# Altium footprint library HAKATAYA.PcbLib: 227 footprints (part 12 of 15)
Each footprint in its own frame and in the unit in brackets; x right, y up, seen from the top. Pads: shape width x height; smd on the part's side, far side on the other; paste and mask are expansions set on the pad; w line width, h text height; cw(c..) or ccw(c..) is an arc to the next point about the centre after c.
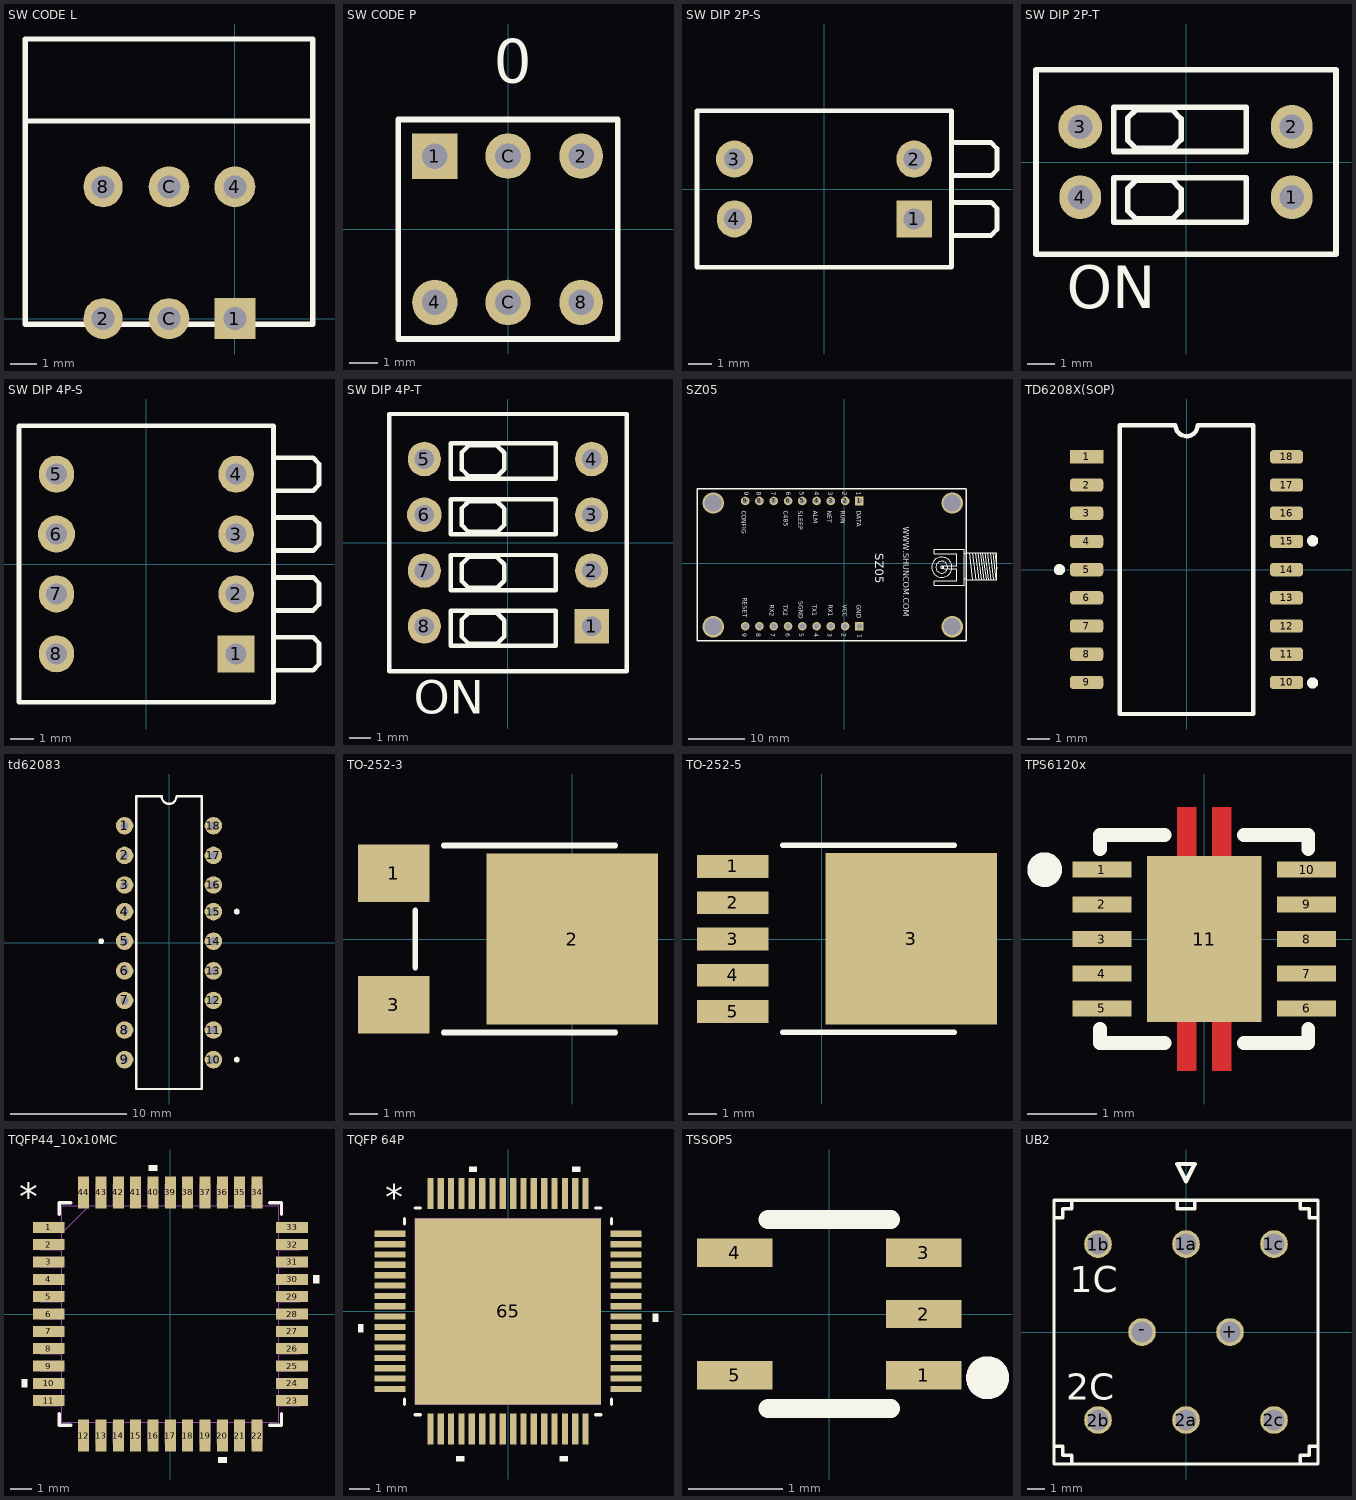
[diagram p11: the footprints below, top view; thin cyan lines are the x and y axes]

## SW CODE L [mil] "DIP CODE SW LIGHTANGLE"
height 314.96
pads (6):
  rect 62x62 hole 35.04: 1(0,0)
  oval 59.06x62 hole 35.04: 2(-200,0) 8(-200,200)
  round 62 hole 35.04: 4(0,200) C(-100,0) C(-100,200)
Top Overlay:
  lines w7.87: -318.11,300 118.11,300 ; -318.11,-8.66 -318.11,424.41 118.11,424.41 118.11,-8.66 -318.11,-8.66

## SW CODE P [mil] "ND-FR 7.62mm"
height 204.72
pads (6):
  rect 62x62 hole 35.04: 1(-100,100)
  oval 59.06x62 hole 35.04: 2(100,100) 8(100,-100)
  round 62 hole 35.04: 4(-100,-100) C(0,-100) C(0,100)
Top Overlay:
  lines w7.87: -150,-150 150,-150 150,150 -150,150 -150,-150
  text "0" at -19.68,200 h60

## SW DIP 2P-S [mm]
height 9.7
pads (4):
  rect 1.5x1.575 hole 0.89: 1(3.81,-1.27)
  oval 1.5x1.575 hole 0.89: 2(3.81,1.27) 4(-3.81,-1.27)
  round 1.575 hole 0.89: 3(-3.81,1.27)
Top Overlay:
  lines w0.2: 5.4,-1.97 7.072,-1.97 7.326,-1.716 7.326,-0.824 7.072,-0.57 5.4,-0.57 ; 5.4,0.57 7.072,0.57 7.326,0.824 7.326,1.716 7.072,1.97 5.4,1.97 ; -5.4,-3.32 5.4,-3.32 5.4,3.32 -5.4,3.32 -5.4,-3.32

## SW DIP 2P-T [mm] "2.54mm DIP"
pads (4):
  oval 1.5x1.575 hole 0.89: 1(3.81,-1.27) 2(3.81,1.27) 4(-3.81,-1.27)
  round 1.575 hole 0.89: 3(-3.81,1.27)
Top Overlay:
  lines w0.2: -5.4,-3.32 5.4,-3.32 5.4,3.32 -5.4,3.32 -5.4,-3.3 ; -2.6,-2.16 2.172,-2.16 2.172,-0.56 -2.6,-0.56 -2.6,-2.16 ; -2.6,0.38 2.172,0.38 2.172,1.98 -2.6,1.98 -2.6,0.38 ; -2.1,-1.75 -1.8,-2.05 -0.49,-2.05 -0.174,-1.734 -0.174,-0.986 -0.51,-0.65 -1.79,-0.65 -2.1,-0.96 -2.1,-1.75 ; -2.1,0.79 -1.8,0.49 -0.49,0.49 -0.174,0.806 -0.174,1.554 -0.51,1.89 -1.79,1.89 -2.1,1.58 -2.1,0.79
  text "ON" at -4.3,-5.26 h1.52

## SW DIP 4P-S [mm] "DIP PIANO TYPE"
height 9.7
pads (8):
  rect 1.575x1.575 hole 0.89: 1(3.81,-3.81)
  oval 1.5x1.575 hole 0.89: 2(3.81,-1.27) 3(3.81,1.27) 4(3.81,3.81) 5(-3.81,3.81) 7(-3.81,-1.27) 8(-3.81,-3.81)
  round 1.575 hole 0.89: 6(-3.81,1.27)
Top Overlay:
  lines w0.2: 5.4,-4.51 7.072,-4.51 7.326,-4.256 7.326,-3.364 7.072,-3.11 5.4,-3.11 ; 5.4,-1.97 7.072,-1.97 7.326,-1.716 7.326,-0.824 7.072,-0.57 5.4,-0.57 ; 5.4,0.57 7.072,0.57 7.326,0.824 7.326,1.716 7.072,1.97 5.4,1.97 ; 5.4,3.11 7.072,3.11 7.326,3.364 7.326,4.256 7.072,4.51 5.4,4.51 ; -5.4,-5.86 5.4,-5.86 5.4,5.86 -5.4,5.86 -5.4,-5.86

## SW DIP 4P-T [mm] "2.54mm"
height 7.2
pads (8):
  rect 1.575x1.575 hole 0.89: 1(3.81,-3.81)
  oval 1.5x1.575 hole 0.89: 2(3.81,-1.27) 3(3.81,1.27) 4(3.81,3.81) 5(-3.81,3.81) 7(-3.81,-1.27) 8(-3.81,-3.81)
  round 1.575 hole 0.89: 6(-3.81,1.27)
Top Overlay:
  lines w0.2: -5.4,-5.86 -5.4,5.86 5.4,5.86 5.4,-5.86 -5.4,-5.86 ; -2.6,-4.7 -2.6,-3.1 2.172,-3.1 2.172,-4.7 -2.6,-4.7 ; -2.6,-2.16 2.172,-2.16 2.172,-0.56 -2.6,-0.56 -2.6,-2.16 ; -2.6,0.38 2.172,0.38 2.172,1.98 -2.6,1.98 -2.6,0.38 ; -2.6,2.92 2.172,2.92 2.172,4.52 -2.6,4.52 -2.6,2.92 ; -2.1,-4.29 -2.1,-3.5 -1.79,-3.19 -0.51,-3.19 -0.174,-3.526 -0.174,-4.274 -0.49,-4.59 -1.8,-4.59 -2.1,-4.29 ; -2.1,-1.75 -1.8,-2.05 -0.49,-2.05 -0.174,-1.734 -0.174,-0.986 -0.51,-0.65 -1.79,-0.65 -2.1,-0.96 -2.1,-1.75 ; -2.1,0.79 -1.8,0.49 -0.49,0.49 -0.174,0.806 -0.174,1.554 -0.51,1.89 -1.79,1.89 -2.1,1.58 -2.1,0.79 ; -2.1,3.33 -1.8,3.03 -0.49,3.03 -0.174,3.346 -0.174,4.094 -0.51,4.43 -1.79,4.43 -2.1,4.12 -2.1,3.33
  text "ON" at -4.3,-7.8 h1.52

## SZ05 [mil]
pads (18):
  rect 60x60 hole 36: 1(107.17,437.2) 18(107.17,-440.51)
  round 60 hole 36: 2(7.17,437.2) 3(-92.83,437.2) 4(-192.83,437.2) 5(-292.83,437.2) 6(-392.83,437.2) 7(-492.83,437.2) 8(-592.83,437.2) 9(-692.83,437.2) 10(-692.83,-440.51) 11(-592.83,-440.51) 12(-492.83,-440.51) 13(-392.83,-440.51) 14(-292.83,-440.51) 15(-192.83,-440.51) 16(-92.83,-440.51) 17(7.17,-440.51)
via -916.89,-442.75 diameter 150 hole 120
via 756.81,-442.75 diameter 150 hole 120
via -916.89,423.39 diameter 150 hole 120
via 756.81,423.39 diameter 150 hole 120
Top Overlay:
  circle w0.98: c684.41,-26.66 r70.87
  circle w0.98: c684.41,-26.66 r41.34
  circle w0.98: c684.41,-26.66 r7.87
  lines w2: 789.41,-10.66 789.41,-16.66 ; 876.41,75.34 899.41,-115.66 ; 899.41,75.34 921.41,-115.66 ; 917.41,75.34 942.41,-115.66 ; 936.41,75.34 962.41,-115.66 ; 953.41,75.34 978.41,-115.66 ; 969.41,75.34 994.41,-115.66 ; 984.41,75.34 1010.41,-115.66 ; 1004.41,75.34 1028.41,-115.66 ; 1022.41,75.34 1044.41,-115.66 ; 1041.41,75.34 1061.41,-115.66 ; 1056.41,75.34 1071.41,-36.66 ; 789.41,-16.66 789.41,68.34 631.41,68.34 631.41,98.34 789.41,98.34 ; 789.41,-16.66 697.41,-16.66 697.41,-25.66 697.41,-36.66 789.41,-36.66 789.41,-43.66 789.41,-122.66 631.41,-122.66 631.41,-152.66 789.41,-152.66 841.41,-152.66 841.41,-108.66 ; 789.41,98.34 841.41,98.34 ; 789.41,98.34 841.41,98.34 ; 841.41,-108.66 841.41,69.34 ; 841.41,-108.66 860.41,-108.66 860.41,-115.66 1071.41,-115.66 1071.41,75.34 860.41,75.34 860.41,69.34 841.41,69.34 ; 841.41,69.34 841.41,98.34
  lines w10: 855,520 855.24,-540.62 -1030.59,-540.62 -1030.59,522.42 855.24,522.42
  text "WWW.SHUNCOM.COM" at 415,255 h40
  text "RESET" at -710,-240 h30
  text "RX2" at -521.69,-290 h30
  text "TX2" at -426.69,-290 h30
  text "SGND" at -316.69,-265 h30
  text "TX1" at -221.69,-290 h30
  text "RX1" at -111.69,-290 h30
  text "VCC" at -10,-290 h30
  text "GND" at 90,-290 h30
  text "CONFIG" at -716.69,370 h30
  text "C485" at -421.69,370 h30
  text "SLEEP" at -321.69,370 h30
  text "ALM" at -216.69,370 h30
  text "NET" at -116.69,370 h30
  text "RUN" at -21.69,370 h30
  text "DATA" at 88.31,370 h30
  text "1" at 88.31,502.13 h30
  text "2" at -10.12,502.13 h30
  text "3" at -110.59,502.13 h30
  text "4" at -206.97,502.13 h30
  text "5" at -310.59,502.13 h30
  text "6" at -403.82,502.13 h30
  text "7" at -512.09,502.13 h30
  text "8" at -610.51,502.13 h30
  text "9" at -699.09,502.13 h30
  text "1" at 95,-495 h30
  text "2" at -15,-490 h30
  text "3" at -115,-490 h30
  text "4" at -210,-490 h30
  text "5" at -315,-490 h30
  text "6" at -410,-490 h30
  text "7" at -515,-490 h30
  text "8" at -615,-490 h30
  text "9" at -715,-490 h30
  text "SZ05" at 220,70 h60

## TD6208X(SOP) [mm]
height 2.5
pads (18):
  rect 1.5x0.6 smd: 1(-4.5,5.08)
  rrect50% 1.5x0.6 smd: 2(-4.5,3.81) 3(-4.5,2.54) 4(-4.5,1.27) 5(-4.5,0) 6(-4.5,-1.27) 7(-4.5,-2.54) 8(-4.5,-3.81) 9(-4.5,-5.08) 10(4.5,-5.08) 11(4.5,-3.81) 12(4.5,-2.54) 13(4.5,-1.27) 14(4.5,0) 15(4.5,1.27) 16(4.5,2.54) 17(4.5,3.81) 18(4.5,5.08)
Top Overlay:
  circle w0.25: c-5.725,0 r0.125
  circle w0.25: c5.675,-5.1 r0.125
  circle w0.25: c5.675,1.3 r0.125
  lines w0.2: -0.5,6.5 -3,6.5 -3,-6.5 3,-6.5 3,6.5 0.5,6.5 cw(c0,6.507) -0.5,6.507

## td62083 [mm]
height 4.15
pads (18):
  round 1.5 hole 0.7: 1(-3.81,10.033) 2(-3.81,7.493) 3(-3.81,4.953) 4(-3.81,2.667) 5(-3.81,0.127) 6(-3.81,-2.413) 7(-3.81,-4.953) 8(-3.81,-7.493) 9(-3.81,-10.033) 10(3.81,-10.033) 11(3.81,-7.493) 12(3.81,-4.953) 13(3.81,-2.413) 14(3.81,0.127) 15(3.81,2.667) 16(3.81,4.953) 17(3.81,7.493) 18(3.81,10.033)
Top Overlay:
  circle w0.25: c5.817,2.667 r0.125
  circle w0.25: c5.817,-10.033 r0.125
  circle w0.25: c-5.817,0.127 r0.125
  lines w0.2: -2.8,-12.55 2.8,-12.55 2.8,12.55 0.64,12.55 cw(c0.005,12.55) -0.631,12.55 -2.8,12.55 -2.8,-12.55

## TO-252-3 [mm] "NJM2845"
height 2.29
pads (3):
  rect 2.5x2 smd: 1(-6.25,2.3) 3(-6.25,-2.3)
  rect 6x6 smd: 2(0,0)
Top Overlay:
  lines w0.2: -5.5,-1 -5.5,1 ; -4.5,-3.27 1.5,-3.27 ; -4.5,3.27 1.5,3.27

## TO-252-5 [mm]
pads (6):
  rect 2.5x0.8 smd: 1(-3.125,2.54) 2(-3.125,1.27) 3(-3.125,0) 4(-3.125,-1.27) 5(-3.125,-2.54)
  rect 6x6 smd: 3(3.125,0.008)
Top Overlay:
  lines w0.2: -1.375,-3.262 4.625,-3.262 ; -1.375,3.278 4.625,3.278

## TPS6120x [mm] "TI LOW VOLTAGE CONVERTER"
height 1
pads (11):
  rect 0.85x0.23 smd: 1(-1.475,1) 2(-1.475,0.5) 3(-1.475,0) 4(-1.475,-0.5) 5(-1.475,-1) 6(1.475,-1) 7(1.475,-0.5) 8(1.475,0) 9(1.475,0.5) 10(1.475,1)
  rect 1.65x2.4 smd mask-3.734: 11(0,0)
Top Layer:
  rectangle: 0.11,-1.9 0.39,-1.2
  rectangle: -0.39,-1.9 -0.11,-1.2
  rectangle: -0.39,1.2 -0.11,1.9
  rectangle: 0.11,1.2 0.39,1.9
Top Overlay:
  circle w0.25: c-2.3,1 r0.125
  lines w0.2: -1.5,-1.3 -1.5,-1.5 -0.575,-1.5 ; -1.5,1.3 -1.5,1.5 -0.575,1.5 ; 0.575,-1.5 1.5,-1.5 1.5,-1.3 ; 0.575,1.5 1.5,1.5 1.5,1.3

## TQFP44_10x10MC [mil]
pads (44):
  rect 58x20 smd: 1(-221,157.48) 2(-221,125.98) 3(-221,94.49) 4(-221,62.99) 5(-221,31.5) 6(-221,0) 7(-221,-31.5) 8(-221,-62.99) 9(-221,-94.49) 10(-221,-125.98) 11(-221,-157.48) 23(221,-157.48) 24(221,-125.98) 25(221,-94.49) 26(221,-62.99) 27(221,-31.5) 28(221,0) 29(221,31.5) 30(221,62.99) 31(221,94.49) 32(221,125.98) 33(221,157.48)
  rect 20x58 smd: 12(-157.48,-221) 13(-125.98,-221) 14(-94.49,-221) 15(-62.99,-221) 16(-31.5,-221) 17(0,-221) 18(31.5,-221) 19(62.99,-221) 20(94.49,-221) 21(125.98,-221) 22(157.48,-221) 34(157.48,221) 35(125.98,221) 36(94.49,221) 37(62.99,221) 38(31.5,221) 39(0,221) 40(-31.5,221) 41(-62.99,221) 42(-94.49,221) 43(-125.98,221) 44(-157.48,221)
Top Overlay:
  region: -260,-118.48 -270,-118.48 -270,-133.48 -260,-133.48
  region: 101.99,-260 86.99,-260 86.99,-270 101.99,-270
  region: 260,70.49 270,70.49 270,55.49 260,55.49
  region: -24,260 -39,260 -39,270 -24,270
  lines w6: -202,-180.58 -202,-202 -180.58,-202 ; -202,180.58 -202,202 -180.58,202 ; 180.58,-202 202,-202 202,-180.58 ; 180.58,202 202,202 202,180.58
  text "*" at -275,188.23 h50
Mechanical 1:
  drawing of 181 lines, arcs and shapes, not listed
  text "*" at -182,173.23 h50

## TQFP 64P [mm] "10x10x1 mm, pitch 0.5mm"
height 1
pads (65):
  rect 1.5x0.3 smd mask+0.127: 1(-5.7,3.75) 2(-5.7,3.25) 3(-5.7,2.75) 4(-5.7,2.25) 5(-5.7,1.75) 6(-5.7,1.25) 7(-5.7,0.75) 8(-5.7,0.25) 9(-5.7,-0.25) 10(-5.7,-0.75) 11(-5.7,-1.25) 12(-5.7,-1.75) 13(-5.7,-2.25) 14(-5.7,-2.75) 15(-5.7,-3.25) 16(-5.7,-3.75) 33(5.7,-3.75) 34(5.7,-3.25) 35(5.7,-2.75) 36(5.7,-2.25) 37(5.7,-1.75) 38(5.7,-1.25) 39(5.7,-0.75) 40(5.7,-0.25) 41(5.7,0.25) 42(5.7,0.75) 43(5.7,1.25) 44(5.7,1.75) 45(5.7,2.25) 46(5.7,2.75) 47(5.7,3.25) 48(5.7,3.75)
  rect 0.3x1.5 smd mask+0.127: 17(-3.75,-5.7) 18(-3.25,-5.7) 19(-2.75,-5.7) 20(-2.25,-5.7) 21(-1.75,-5.7) 22(-1.25,-5.7) 23(-0.75,-5.7) 24(-0.25,-5.7) 25(0.25,-5.7) 26(0.75,-5.7) 27(1.25,-5.7) 28(1.75,-5.7) 29(2.25,-5.7) 30(2.75,-5.7) 31(3.25,-5.7) 32(3.75,-5.7) 49(3.75,5.7) 50(3.25,5.7) 51(2.75,5.7) 52(2.25,5.7) 53(1.75,5.7) 54(1.25,5.7) 55(0.75,5.7) 56(0.25,5.7) 57(-0.25,5.7) 58(-0.75,5.7) 59(-1.25,5.7) 60(-1.75,5.7) 61(-2.25,5.7) 62(-2.75,5.7) 63(-3.25,5.7) 64(-3.75,5.7)
  rect 9x9 smd mask-3.734: 65(0,0)
Top Overlay:
  region: 3.5,6.746 3.119,6.746 3.119,7 3.5,7
  region: 7,-0.119 7.254,-0.119 7.254,-0.5 7,-0.5
  region: 2.881,-7 2.5,-7 2.5,-7.254 2.881,-7.254
  region: -2.119,-7 -2.5,-7 -2.5,-7.254 -2.119,-7.254
  region: -7,-0.619 -7.254,-0.619 -7.254,-1 -7,-1
  region: -1.5,6.746 -1.881,6.746 -1.881,7 -1.5,7
  lines w0.152: -5,-4.496 -5,-4.233 ; -5,4.233 -5,4.496 ; -4.496,-5 -4.233,-5 ; -4.496,5 -4.233,5 ; 4.233,-5 4.496,-5 ; 4.233,5 4.496,5 ; 5,-4.496 5,-4.233 ; 5,4.233 5,4.496
  text "*" at -5.936,4.881 h1.27
Mechanical 1:
  lines w0: -4.496,3.226 -3.226,4.496 ; -4.496,-4.496 -4.496,4.496 4.496,4.496 4.496,-4.496 -4.496,-4.496 ; -4.496,-3.902 -4.496,-3.598 -4.496,-3.902 ; -4.496,-3.402 -4.496,-3.098 -4.496,-3.402 ; -4.496,-2.902 -4.496,-2.598 -4.496,-2.902 ; -4.496,-2.402 -4.496,-2.098 -4.496,-2.402 ; -4.496,-1.902 -4.496,-1.598 -4.496,-1.902 ; -4.496,-1.402 -4.496,-1.098 -4.496,-1.402 ; -4.496,-0.902 -4.496,-0.598 -4.496,-0.902 ; -4.496,-0.402 -4.496,-0.098 -4.496,-0.402 ; -4.496,0.098 -4.496,0.402 -4.496,0.098 ; -4.496,0.598 -4.496,0.902 -4.496,0.598 ; -4.496,1.098 -4.496,1.402 -4.496,1.098 ; -4.496,1.598 -4.496,1.902 -4.496,1.598 ; -4.496,2.098 -4.496,2.402 -4.496,2.098 ; -4.496,2.598 -4.496,2.902 -4.496,2.598 ; -4.496,3.098 -4.496,3.402 -4.496,3.098 ; -4.496,3.598 -4.496,3.902 -4.496,3.598 ; -3.902,-4.496 -3.598,-4.496 -3.902,-4.496 ; -3.902,4.496 -3.598,4.496 -3.902,4.496 ; -3.402,-4.496 -3.098,-4.496 -3.402,-4.496 ; -3.402,4.496 -3.098,4.496 -3.402,4.496 ; -2.902,-4.496 -2.598,-4.496 -2.902,-4.496 ; -2.902,4.496 -2.598,4.496 -2.902,4.496 ; -2.402,-4.496 -2.098,-4.496 -2.402,-4.496 ; -2.402,4.496 -2.098,4.496 -2.402,4.496 ; -1.902,-4.496 -1.598,-4.496 -1.902,-4.496 ; -1.902,4.496 -1.598,4.496 -1.902,4.496 ; -1.402,-4.496 -1.098,-4.496 -1.402,-4.496 ; -1.402,4.496 -1.098,4.496 -1.402,4.496 ; -0.902,-4.496 -0.598,-4.496 -0.902,-4.496 ; -0.902,4.496 -0.598,4.496 -0.902,4.496 ; -0.402,-4.496 -0.098,-4.496 -0.402,-4.496 ; -0.402,4.496 -0.098,4.496 -0.402,4.496 ; 0.098,-4.496 0.402,-4.496 0.098,-4.496 ; 0.098,4.496 0.402,4.496 0.098,4.496 ; 0.598,-4.496 0.902,-4.496 0.598,-4.496 ; 0.598,4.496 0.902,4.496 0.598,4.496 ; 1.098,-4.496 1.402,-4.496 1.098,-4.496 ; 1.098,4.496 1.402,4.496 1.098,4.496 ; 1.598,-4.496 1.902,-4.496 1.598,-4.496 ; 1.598,4.496 1.902,4.496 1.598,4.496 ; 2.098,-4.496 2.402,-4.496 2.098,-4.496 ; 2.098,4.496 2.402,4.496 2.098,4.496 ; 2.598,-4.496 2.902,-4.496 2.598,-4.496 ; 2.598,4.496 2.902,4.496 2.598,4.496 ; 3.098,-4.496 3.402,-4.496 3.098,-4.496 ; 3.098,4.496 3.402,4.496 3.098,4.496 ; 3.598,-4.496 3.902,-4.496 3.598,-4.496 ; 3.598,4.496 3.902,4.496 3.598,4.496 ; 4.496,-3.902 4.496,-3.598 4.496,-3.902 ; 4.496,-3.402 4.496,-3.098 4.496,-3.402 ; 4.496,-2.902 4.496,-2.598 4.496,-2.902 ; 4.496,-2.402 4.496,-2.098 4.496,-2.402 ; 4.496,-1.902 4.496,-1.598 4.496,-1.902 ; 4.496,-1.402 4.496,-1.098 4.496,-1.402 ; 4.496,-0.902 4.496,-0.598 4.496,-0.902 ; 4.496,-0.402 4.496,-0.098 4.496,-0.402 ; 4.496,0.098 4.496,0.402 4.496,0.098 ; 4.496,0.598 4.496,0.902 4.496,0.598 ; 4.496,1.098 4.496,1.402 4.496,1.098 ; 4.496,1.598 4.496,1.902 4.496,1.598 ; 4.496,2.098 4.496,2.402 4.496,2.098 ; 4.496,2.598 4.496,2.902 4.496,2.598 ; 4.496,3.098 4.496,3.402 4.496,3.098 ; 4.496,3.598 4.496,3.902 4.496,3.598
  text "*" at -5.936,4.881 h1.27

## TSSOP5 [mm] "BODY WIDTH 1.25mm"
pads (5):
  rect 0.8x0.3 smd: 1(1,-0.65) 2(1,0) 3(1,0.65) 4(-1,0.65) 5(-1,-0.65)
Top Overlay:
  circle w0.254: c1.675,-0.675 r0.1
  lines w0.2: -0.65,-1 0.65,-1 ; -0.65,1 0.65,1

## UB2 [mm] "NKK PUSH SW BODY H=10mm 15.24x15.24"
height 18.5
pads (8):
  round 1.6 hole 1.2: 1a(0,5.08) 1b(-5.08,5.08) 1c(5.08,5.08) 2a(0,-5.08) 2b(-5.08,-5.08) 2c(5.08,-5.08) +(2.54,0) -(-2.54,0)
Top Overlay:
  lines w0.2: -7.62,-6.604 -7.112,-6.604 -7.112,-7.112 -6.604,-7.112 -6.604,-7.62 ; -7.62,6.604 -7.112,6.604 -7.112,7.112 -6.604,7.112 -6.604,7.62 ; -0.508,7.62 -0.508,7.112 0.508,7.112 0.508,7.62 ; 6.604,-7.62 6.604,-7.112 7.112,-7.112 7.112,-6.604 7.62,-6.604 ; 6.604,7.62 6.604,7.112 7.112,7.112 7.112,6.604 7.62,6.604 ; -7.62,-7.62 7.62,-7.62 7.62,7.62 -7.62,7.62 -7.62,-7.62
  lines w0.254: -0.5,9.7 0,8.7 0.5,9.7 -0.5,9.7
  text "2C" at -6.9,-3.9 h1.52
  text "1C" at -6.7,2.3 h1.52